# Altium footprint library con-leotronics.PCBLIB: 93 footprints (part 2 of 8)
Each footprint in its own frame and in the unit in brackets; x right, y up, seen from the top. Pads: shape width x height; smd on the part's side, far side on the other; paste and mask are expansions set on the pad; w line width, h text height; cw(c..) or ccw(c..) is an arc to the next point about the centre after c.
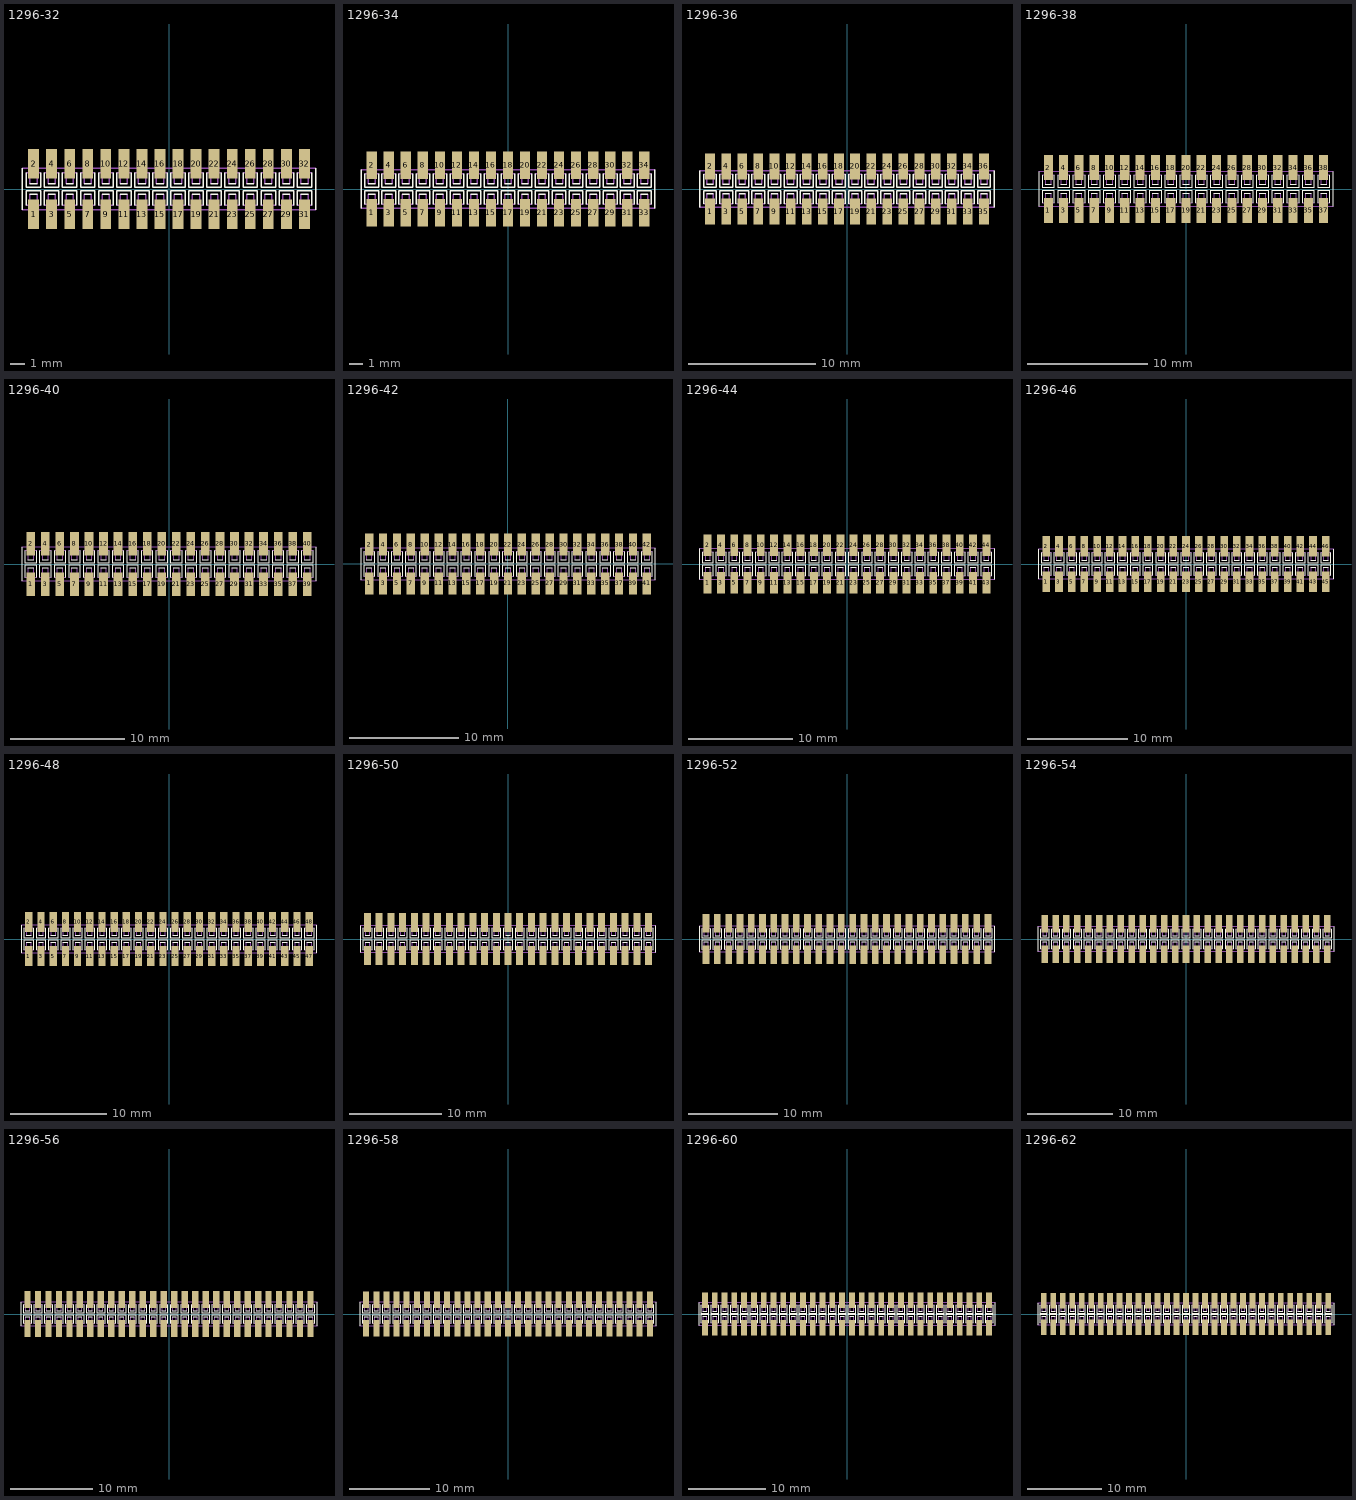
[diagram p1: the footprints below, top view; thin cyan lines are the x and y axes]

## 1296-32 [mm]
pads (32):
  rect 0.76x2.05 smd: 1(-9.525,-1.78) 2(-9.525,1.78) 3(-8.255,-1.78) 4(-8.255,1.78) 5(-6.985,-1.78) 6(-6.985,1.78) 7(-5.715,-1.78) 8(-5.715,1.78) 9(-4.445,-1.78) 10(-4.445,1.78) 11(-3.175,-1.78) 12(-3.175,1.78) 13(-1.905,-1.78) 14(-1.905,1.78) 15(-0.635,-1.78) 16(-0.635,1.78) 17(0.635,-1.78) 18(0.635,1.78) 19(1.905,-1.78) 20(1.905,1.78) 21(3.175,-1.78) 22(3.175,1.78) 23(4.445,-1.78) 24(4.445,1.78) 25(5.715,-1.78) 26(5.715,1.78) 27(6.985,-1.78) 28(6.985,1.78) 29(8.255,-1.78) 30(8.255,1.78) 31(9.525,-1.78) 32(9.525,1.78)
Top Overlay:
  lines w0.102: -10.32,-1.45 -10.32,1.45 ; -10.033,-1.143 -10.033,-0.127 -9.017,-0.127 -9.017,-1.143 ; -10.033,1.143 -10.033,0.127 -9.017,0.127 -9.017,1.143 ; -9.779,-0.381 -9.271,-0.381 ; -9.779,0.381 -9.271,0.381 ; -8.763,-1.143 -8.763,-0.127 -7.747,-0.127 -7.747,-1.143 ; -8.763,1.143 -8.763,0.127 -7.747,0.127 -7.747,1.143 ; -8.509,-0.381 -8.001,-0.381 ; -8.509,0.381 -8.001,0.381 ; -7.493,-1.143 -7.493,-0.127 -6.477,-0.127 -6.477,-1.143 ; -7.493,1.143 -7.493,0.127 -6.477,0.127 -6.477,1.143 ; -7.239,-0.381 -6.731,-0.381 ; -7.239,0.381 -6.731,0.381 ; -6.223,-1.143 -6.223,-0.127 -5.207,-0.127 -5.207,-1.143 ; -6.223,1.143 -6.223,0.127 -5.207,0.127 -5.207,1.143 ; -5.969,-0.381 -5.461,-0.381 ; -5.969,0.381 -5.461,0.381 ; -4.953,-1.143 -4.953,-0.127 -3.937,-0.127 -3.937,-1.143 ; -4.953,1.143 -4.953,0.127 -3.937,0.127 -3.937,1.143 ; -4.699,-0.381 -4.191,-0.381 ; -4.699,0.381 -4.191,0.381 ; -3.683,-1.143 -3.683,-0.127 -2.667,-0.127 -2.667,-1.143 ; -3.683,1.143 -3.683,0.127 -2.667,0.127 -2.667,1.143 ; -3.429,-0.381 -2.921,-0.381 ; -3.429,0.381 -2.921,0.381 ; -2.413,-1.143 -2.413,-0.127 -1.397,-0.127 -1.397,-1.143 ; -2.413,1.143 -2.413,0.127 -1.397,0.127 -1.397,1.143 ; -2.159,-0.381 -1.651,-0.381 ; -2.159,0.381 -1.651,0.381 ; -1.143,-1.143 -1.143,-0.127 -0.127,-0.127 -0.127,-1.143 ; -1.143,1.143 -1.143,0.127 -0.127,0.127 -0.127,1.143 ; -0.889,-0.381 -0.381,-0.381 ; -0.889,0.381 -0.381,0.381 ; 0.127,-1.143 0.127,-0.127 1.143,-0.127 1.143,-1.143 ; 0.127,1.143 0.127,0.127 1.143,0.127 1.143,1.143 ; 0.381,-0.381 0.889,-0.381 ; 0.381,0.381 0.889,0.381 ; 1.397,-1.143 1.397,-0.127 2.413,-0.127 2.413,-1.143 ; 1.397,1.143 1.397,0.127 2.413,0.127 2.413,1.143 ; 1.651,-0.381 2.159,-0.381 ; 1.651,0.381 2.159,0.381 ; 2.667,-1.143 2.667,-0.127 3.683,-0.127 3.683,-1.143 ; 2.667,1.143 2.667,0.127 3.683,0.127 3.683,1.143 ; 2.921,-0.381 3.429,-0.381 ; 2.921,0.381 3.429,0.381 ; 3.937,-1.143 3.937,-0.127 4.953,-0.127 4.953,-1.143 ; 3.937,1.143 3.937,0.127 4.953,0.127 4.953,1.143 ; 4.191,-0.381 4.699,-0.381 ; 4.191,0.381 4.699,0.381 ; 5.207,-1.143 5.207,-0.127 6.223,-0.127 6.223,-1.143 ; 5.207,1.143 5.207,0.127 6.223,0.127 6.223,1.143 ; 5.461,-0.381 5.969,-0.381 ; 5.461,0.381 5.969,0.381 ; 6.477,-1.143 6.477,-0.127 7.493,-0.127 7.493,-1.143 ; 6.477,1.143 6.477,0.127 7.493,0.127 7.493,1.143 ; 6.731,-0.381 7.239,-0.381 ; 6.731,0.381 7.239,0.381 ; 7.747,-1.143 7.747,-0.127 8.763,-0.127 8.763,-1.143 ; 7.747,1.143 7.747,0.127 8.763,0.127 8.763,1.143 ; 8.001,-0.381 8.509,-0.381 ; 8.001,0.381 8.509,0.381 ; 9.017,-1.143 9.017,-0.127 10.033,-0.127 10.033,-1.143 ; 9.017,1.143 9.017,0.127 10.033,0.127 10.033,1.143 ; 9.271,-0.381 9.779,-0.381 ; 9.271,0.381 9.779,0.381 ; 10.32,-1.45 10.32,1.45
Mechanical 16:
  lines w0.102: -10.32,-1.45 10.32,-1.45 ; -10.32,1.45 10.32,1.45 ; -10.033,-1.143 -9.017,-1.143 ; -10.033,1.143 -9.017,1.143 ; -9.779,-0.381 -9.779,-0.889 -9.271,-0.889 -9.271,-0.381 ; -9.779,0.381 -9.779,0.889 -9.271,0.889 -9.271,0.381 ; -8.763,-1.143 -7.747,-1.143 ; -8.763,1.143 -7.747,1.143 ; -8.509,-0.381 -8.509,-0.889 -8.001,-0.889 -8.001,-0.381 ; -8.509,0.381 -8.509,0.889 -8.001,0.889 -8.001,0.381 ; -7.493,-1.143 -6.477,-1.143 ; -7.493,1.143 -6.477,1.143 ; -7.239,-0.381 -7.239,-0.889 -6.731,-0.889 -6.731,-0.381 ; -7.239,0.381 -7.239,0.889 -6.731,0.889 -6.731,0.381 ; -6.223,-1.143 -5.207,-1.143 ; -6.223,1.143 -5.207,1.143 ; -5.969,-0.381 -5.969,-0.889 -5.461,-0.889 -5.461,-0.381 ; -5.969,0.381 -5.969,0.889 -5.461,0.889 -5.461,0.381 ; -4.953,-1.143 -3.937,-1.143 ; -4.953,1.143 -3.937,1.143 ; -4.699,-0.381 -4.699,-0.889 -4.191,-0.889 -4.191,-0.381 ; -4.699,0.381 -4.699,0.889 -4.191,0.889 -4.191,0.381 ; -3.683,-1.143 -2.667,-1.143 ; -3.683,1.143 -2.667,1.143 ; -3.429,-0.381 -3.429,-0.889 -2.921,-0.889 -2.921,-0.381 ; -3.429,0.381 -3.429,0.889 -2.921,0.889 -2.921,0.381 ; -2.413,-1.143 -1.397,-1.143 ; -2.413,1.143 -1.397,1.143 ; -2.159,-0.381 -2.159,-0.889 -1.651,-0.889 -1.651,-0.381 ; -2.159,0.381 -2.159,0.889 -1.651,0.889 -1.651,0.381 ; -1.143,-1.143 -0.127,-1.143 ; -1.143,1.143 -0.127,1.143 ; -0.889,-0.381 -0.889,-0.889 -0.381,-0.889 -0.381,-0.381 ; -0.889,0.381 -0.889,0.889 -0.381,0.889 -0.381,0.381 ; 0.127,-1.143 1.143,-1.143 ; 0.127,1.143 1.143,1.143 ; 0.381,-0.381 0.381,-0.889 0.889,-0.889 0.889,-0.381 ; 0.381,0.381 0.381,0.889 0.889,0.889 0.889,0.381 ; 1.397,-1.143 2.413,-1.143 ; 1.397,1.143 2.413,1.143 ; 1.651,-0.381 1.651,-0.889 2.159,-0.889 2.159,-0.381 ; 1.651,0.381 1.651,0.889 2.159,0.889 2.159,0.381 ; 2.667,-1.143 3.683,-1.143 ; 2.667,1.143 3.683,1.143 ; 2.921,-0.381 2.921,-0.889 3.429,-0.889 3.429,-0.381 ; 2.921,0.381 2.921,0.889 3.429,0.889 3.429,0.381 ; 3.937,-1.143 4.953,-1.143 ; 3.937,1.143 4.953,1.143 ; 4.191,-0.381 4.191,-0.889 4.699,-0.889 4.699,-0.381 ; 4.191,0.381 4.191,0.889 4.699,0.889 4.699,0.381 ; 5.207,-1.143 6.223,-1.143 ; 5.207,1.143 6.223,1.143 ; 5.461,-0.381 5.461,-0.889 5.969,-0.889 5.969,-0.381 ; 5.461,0.381 5.461,0.889 5.969,0.889 5.969,0.381 ; 6.477,-1.143 7.493,-1.143 ; 6.477,1.143 7.493,1.143 ; 6.731,-0.381 6.731,-0.889 7.239,-0.889 7.239,-0.381 ; 6.731,0.381 6.731,0.889 7.239,0.889 7.239,0.381 ; 7.747,-1.143 8.763,-1.143 ; 7.747,1.143 8.763,1.143 ; 8.001,-0.381 8.001,-0.889 8.509,-0.889 8.509,-0.381 ; 8.001,0.381 8.001,0.889 8.509,0.889 8.509,0.381 ; 9.017,-1.143 10.033,-1.143 ; 9.017,1.143 10.033,1.143 ; 9.271,-0.381 9.271,-0.889 9.779,-0.889 9.779,-0.381 ; 9.271,0.381 9.271,0.889 9.779,0.889 9.779,0.381

## 1296-34 [mm]
pads (34):
  rect 0.76x2.05 smd: 1(-10.16,-1.78) 2(-10.16,1.78) 3(-8.89,-1.78) 4(-8.89,1.78) 5(-7.62,-1.78) 6(-7.62,1.78) 7(-6.35,-1.78) 8(-6.35,1.78) 9(-5.08,-1.78) 10(-5.08,1.78) 11(-3.81,-1.78) 12(-3.81,1.78) 13(-2.54,-1.78) 14(-2.54,1.78) 15(-1.27,-1.78) 16(-1.27,1.78) 17(0,-1.78) 18(0,1.78) 19(1.27,-1.78) 20(1.27,1.78) 21(2.54,-1.78) 22(2.54,1.78) 23(3.81,-1.78) 24(3.81,1.78) 25(5.08,-1.78) 26(5.08,1.78) 27(6.35,-1.78) 28(6.35,1.78) 29(7.62,-1.78) 30(7.62,1.78) 31(8.89,-1.78) 32(8.89,1.78) 33(10.16,-1.78) 34(10.16,1.78)
Top Overlay:
  lines w0.102: -10.955,-1.45 -10.955,1.45 ; -10.668,-1.143 -10.668,-0.127 -9.652,-0.127 -9.652,-1.143 ; -10.668,1.143 -10.668,0.127 -9.652,0.127 -9.652,1.143 ; -10.414,-0.381 -9.906,-0.381 ; -10.414,0.381 -9.906,0.381 ; -9.398,-1.143 -9.398,-0.127 -8.382,-0.127 -8.382,-1.143 ; -9.398,1.143 -9.398,0.127 -8.382,0.127 -8.382,1.143 ; -9.144,-0.381 -8.636,-0.381 ; -9.144,0.381 -8.636,0.381 ; -8.128,-1.143 -8.128,-0.127 -7.112,-0.127 -7.112,-1.143 ; -8.128,1.143 -8.128,0.127 -7.112,0.127 -7.112,1.143 ; -7.874,-0.381 -7.366,-0.381 ; -7.874,0.381 -7.366,0.381 ; -6.858,-1.143 -6.858,-0.127 -5.842,-0.127 -5.842,-1.143 ; -6.858,1.143 -6.858,0.127 -5.842,0.127 -5.842,1.143 ; -6.604,-0.381 -6.096,-0.381 ; -6.604,0.381 -6.096,0.381 ; -5.588,-1.143 -5.588,-0.127 -4.572,-0.127 -4.572,-1.143 ; -5.588,1.143 -5.588,0.127 -4.572,0.127 -4.572,1.143 ; -5.334,-0.381 -4.826,-0.381 ; -5.334,0.381 -4.826,0.381 ; -4.318,-1.143 -4.318,-0.127 -3.302,-0.127 -3.302,-1.143 ; -4.318,1.143 -4.318,0.127 -3.302,0.127 -3.302,1.143 ; -4.064,-0.381 -3.556,-0.381 ; -4.064,0.381 -3.556,0.381 ; -3.048,-1.143 -3.048,-0.127 -2.032,-0.127 -2.032,-1.143 ; -3.048,1.143 -3.048,0.127 -2.032,0.127 -2.032,1.143 ; -2.794,-0.381 -2.286,-0.381 ; -2.794,0.381 -2.286,0.381 ; -1.778,-1.143 -1.778,-0.127 -0.762,-0.127 -0.762,-1.143 ; -1.778,1.143 -1.778,0.127 -0.762,0.127 -0.762,1.143 ; -1.524,-0.381 -1.016,-0.381 ; -1.524,0.381 -1.016,0.381 ; -0.508,-1.143 -0.508,-0.127 0.508,-0.127 0.508,-1.143 ; -0.508,1.143 -0.508,0.127 0.508,0.127 0.508,1.143 ; -0.254,-0.381 0.254,-0.381 ; -0.254,0.381 0.254,0.381 ; 0.762,-1.143 0.762,-0.127 1.778,-0.127 1.778,-1.143 ; 0.762,1.143 0.762,0.127 1.778,0.127 1.778,1.143 ; 1.016,-0.381 1.524,-0.381 ; 1.016,0.381 1.524,0.381 ; 2.032,-1.143 2.032,-0.127 3.048,-0.127 3.048,-1.143 ; 2.032,1.143 2.032,0.127 3.048,0.127 3.048,1.143 ; 2.286,-0.381 2.794,-0.381 ; 2.286,0.381 2.794,0.381 ; 3.302,-1.143 3.302,-0.127 4.318,-0.127 4.318,-1.143 ; 3.302,1.143 3.302,0.127 4.318,0.127 4.318,1.143 ; 3.556,-0.381 4.064,-0.381 ; 3.556,0.381 4.064,0.381 ; 4.572,-1.143 4.572,-0.127 5.588,-0.127 5.588,-1.143 ; 4.572,1.143 4.572,0.127 5.588,0.127 5.588,1.143 ; 4.826,-0.381 5.334,-0.381 ; 4.826,0.381 5.334,0.381 ; 5.842,-1.143 5.842,-0.127 6.858,-0.127 6.858,-1.143 ; 5.842,1.143 5.842,0.127 6.858,0.127 6.858,1.143 ; 6.096,-0.381 6.604,-0.381 ; 6.096,0.381 6.604,0.381 ; 7.112,-1.143 7.112,-0.127 8.128,-0.127 8.128,-1.143 ; 7.112,1.143 7.112,0.127 8.128,0.127 8.128,1.143 ; 7.366,-0.381 7.874,-0.381 ; 7.366,0.381 7.874,0.381 ; 8.382,-1.143 8.382,-0.127 9.398,-0.127 9.398,-1.143 ; 8.382,1.143 8.382,0.127 9.398,0.127 9.398,1.143 ; 8.636,-0.381 9.144,-0.381 ; 8.636,0.381 9.144,0.381 ; 9.652,-1.143 9.652,-0.127 10.668,-0.127 10.668,-1.143 ; 9.652,1.143 9.652,0.127 10.668,0.127 10.668,1.143 ; 9.906,-0.381 10.414,-0.381 ; 9.906,0.381 10.414,0.381 ; 10.955,-1.45 10.955,1.45
Mechanical 16:
  lines w0.102: -10.955,-1.45 10.955,-1.45 ; -10.955,1.45 10.955,1.45 ; -10.668,-1.143 -9.652,-1.143 ; -10.668,1.143 -9.652,1.143 ; -10.414,-0.381 -10.414,-0.889 -9.906,-0.889 -9.906,-0.381 ; -10.414,0.381 -10.414,0.889 -9.906,0.889 -9.906,0.381 ; -9.398,-1.143 -8.382,-1.143 ; -9.398,1.143 -8.382,1.143 ; -9.144,-0.381 -9.144,-0.889 -8.636,-0.889 -8.636,-0.381 ; -9.144,0.381 -9.144,0.889 -8.636,0.889 -8.636,0.381 ; -8.128,-1.143 -7.112,-1.143 ; -8.128,1.143 -7.112,1.143 ; -7.874,-0.381 -7.874,-0.889 -7.366,-0.889 -7.366,-0.381 ; -7.874,0.381 -7.874,0.889 -7.366,0.889 -7.366,0.381 ; -6.858,-1.143 -5.842,-1.143 ; -6.858,1.143 -5.842,1.143 ; -6.604,-0.381 -6.604,-0.889 -6.096,-0.889 -6.096,-0.381 ; -6.604,0.381 -6.604,0.889 -6.096,0.889 -6.096,0.381 ; -5.588,-1.143 -4.572,-1.143 ; -5.588,1.143 -4.572,1.143 ; -5.334,-0.381 -5.334,-0.889 -4.826,-0.889 -4.826,-0.381 ; -5.334,0.381 -5.334,0.889 -4.826,0.889 -4.826,0.381 ; -4.318,-1.143 -3.302,-1.143 ; -4.318,1.143 -3.302,1.143 ; -4.064,-0.381 -4.064,-0.889 -3.556,-0.889 -3.556,-0.381 ; -4.064,0.381 -4.064,0.889 -3.556,0.889 -3.556,0.381 ; -3.048,-1.143 -2.032,-1.143 ; -3.048,1.143 -2.032,1.143 ; -2.794,-0.381 -2.794,-0.889 -2.286,-0.889 -2.286,-0.381 ; -2.794,0.381 -2.794,0.889 -2.286,0.889 -2.286,0.381 ; -1.778,-1.143 -0.762,-1.143 ; -1.778,1.143 -0.762,1.143 ; -1.524,-0.381 -1.524,-0.889 -1.016,-0.889 -1.016,-0.381 ; -1.524,0.381 -1.524,0.889 -1.016,0.889 -1.016,0.381 ; -0.508,-1.143 0.508,-1.143 ; -0.508,1.143 0.508,1.143 ; -0.254,-0.381 -0.254,-0.889 0.254,-0.889 0.254,-0.381 ; -0.254,0.381 -0.254,0.889 0.254,0.889 0.254,0.381 ; 0.762,-1.143 1.778,-1.143 ; 0.762,1.143 1.778,1.143 ; 1.016,-0.381 1.016,-0.889 1.524,-0.889 1.524,-0.381 ; 1.016,0.381 1.016,0.889 1.524,0.889 1.524,0.381 ; 2.032,-1.143 3.048,-1.143 ; 2.032,1.143 3.048,1.143 ; 2.286,-0.381 2.286,-0.889 2.794,-0.889 2.794,-0.381 ; 2.286,0.381 2.286,0.889 2.794,0.889 2.794,0.381 ; 3.302,-1.143 4.318,-1.143 ; 3.302,1.143 4.318,1.143 ; 3.556,-0.381 3.556,-0.889 4.064,-0.889 4.064,-0.381 ; 3.556,0.381 3.556,0.889 4.064,0.889 4.064,0.381 ; 4.572,-1.143 5.588,-1.143 ; 4.572,1.143 5.588,1.143 ; 4.826,-0.381 4.826,-0.889 5.334,-0.889 5.334,-0.381 ; 4.826,0.381 4.826,0.889 5.334,0.889 5.334,0.381 ; 5.842,-1.143 6.858,-1.143 ; 5.842,1.143 6.858,1.143 ; 6.096,-0.381 6.096,-0.889 6.604,-0.889 6.604,-0.381 ; 6.096,0.381 6.096,0.889 6.604,0.889 6.604,0.381 ; 7.112,-1.143 8.128,-1.143 ; 7.112,1.143 8.128,1.143 ; 7.366,-0.381 7.366,-0.889 7.874,-0.889 7.874,-0.381 ; 7.366,0.381 7.366,0.889 7.874,0.889 7.874,0.381 ; 8.382,-1.143 9.398,-1.143 ; 8.382,1.143 9.398,1.143 ; 8.636,-0.381 8.636,-0.889 9.144,-0.889 9.144,-0.381 ; 8.636,0.381 8.636,0.889 9.144,0.889 9.144,0.381 ; 9.652,-1.143 10.668,-1.143 ; 9.652,1.143 10.668,1.143 ; 9.906,-0.381 9.906,-0.889 10.414,-0.889 10.414,-0.381 ; 9.906,0.381 9.906,0.889 10.414,0.889 10.414,0.381

## 1296-36 [mm]
pads (36):
  rect 0.76x2.05 smd: 1(-10.795,-1.78) 2(-10.795,1.78) 3(-9.525,-1.78) 4(-9.525,1.78) 5(-8.255,-1.78) 6(-8.255,1.78) 7(-6.985,-1.78) 8(-6.985,1.78) 9(-5.715,-1.78) 10(-5.715,1.78) 11(-4.445,-1.78) 12(-4.445,1.78) 13(-3.175,-1.78) 14(-3.175,1.78) 15(-1.905,-1.78) 16(-1.905,1.78) 17(-0.635,-1.78) 18(-0.635,1.78) 19(0.635,-1.78) 20(0.635,1.78) 21(1.905,-1.78) 22(1.905,1.78) 23(3.175,-1.78) 24(3.175,1.78) 25(4.445,-1.78) 26(4.445,1.78) 27(5.715,-1.78) 28(5.715,1.78) 29(6.985,-1.78) 30(6.985,1.78) 31(8.255,-1.78) 32(8.255,1.78) 33(9.525,-1.78) 34(9.525,1.78) 35(10.795,-1.78) 36(10.795,1.78)
Top Overlay:
  lines w0.102: -11.59,-1.45 -11.59,1.45 ; -11.303,-1.143 -11.303,-0.127 -10.287,-0.127 -10.287,-1.143 ; -11.303,1.143 -11.303,0.127 -10.287,0.127 -10.287,1.143 ; -11.049,-0.381 -10.541,-0.381 ; -11.049,0.381 -10.541,0.381 ; -10.033,-1.143 -10.033,-0.127 -9.017,-0.127 -9.017,-1.143 ; -10.033,1.143 -10.033,0.127 -9.017,0.127 -9.017,1.143 ; -9.779,-0.381 -9.271,-0.381 ; -9.779,0.381 -9.271,0.381 ; -8.763,-1.143 -8.763,-0.127 -7.747,-0.127 -7.747,-1.143 ; -8.763,1.143 -8.763,0.127 -7.747,0.127 -7.747,1.143 ; -8.509,-0.381 -8.001,-0.381 ; -8.509,0.381 -8.001,0.381 ; -7.493,-1.143 -7.493,-0.127 -6.477,-0.127 -6.477,-1.143 ; -7.493,1.143 -7.493,0.127 -6.477,0.127 -6.477,1.143 ; -7.239,-0.381 -6.731,-0.381 ; -7.239,0.381 -6.731,0.381 ; -6.223,-1.143 -6.223,-0.127 -5.207,-0.127 -5.207,-1.143 ; -6.223,1.143 -6.223,0.127 -5.207,0.127 -5.207,1.143 ; -5.969,-0.381 -5.461,-0.381 ; -5.969,0.381 -5.461,0.381 ; -4.953,-1.143 -4.953,-0.127 -3.937,-0.127 -3.937,-1.143 ; -4.953,1.143 -4.953,0.127 -3.937,0.127 -3.937,1.143 ; -4.699,-0.381 -4.191,-0.381 ; -4.699,0.381 -4.191,0.381 ; -3.683,-1.143 -3.683,-0.127 -2.667,-0.127 -2.667,-1.143 ; -3.683,1.143 -3.683,0.127 -2.667,0.127 -2.667,1.143 ; -3.429,-0.381 -2.921,-0.381 ; -3.429,0.381 -2.921,0.381 ; -2.413,-1.143 -2.413,-0.127 -1.397,-0.127 -1.397,-1.143 ; -2.413,1.143 -2.413,0.127 -1.397,0.127 -1.397,1.143 ; -2.159,-0.381 -1.651,-0.381 ; -2.159,0.381 -1.651,0.381 ; -1.143,-1.143 -1.143,-0.127 -0.127,-0.127 -0.127,-1.143 ; -1.143,1.143 -1.143,0.127 -0.127,0.127 -0.127,1.143 ; -0.889,-0.381 -0.381,-0.381 ; -0.889,0.381 -0.381,0.381 ; 0.127,-1.143 0.127,-0.127 1.143,-0.127 1.143,-1.143 ; 0.127,1.143 0.127,0.127 1.143,0.127 1.143,1.143 ; 0.381,-0.381 0.889,-0.381 ; 0.381,0.381 0.889,0.381 ; 1.397,-1.143 1.397,-0.127 2.413,-0.127 2.413,-1.143 ; 1.397,1.143 1.397,0.127 2.413,0.127 2.413,1.143 ; 1.651,-0.381 2.159,-0.381 ; 1.651,0.381 2.159,0.381 ; 2.667,-1.143 2.667,-0.127 3.683,-0.127 3.683,-1.143 ; 2.667,1.143 2.667,0.127 3.683,0.127 3.683,1.143 ; 2.921,-0.381 3.429,-0.381 ; 2.921,0.381 3.429,0.381 ; 3.937,-1.143 3.937,-0.127 4.953,-0.127 4.953,-1.143 ; 3.937,1.143 3.937,0.127 4.953,0.127 4.953,1.143 ; 4.191,-0.381 4.699,-0.381 ; 4.191,0.381 4.699,0.381 ; 5.207,-1.143 5.207,-0.127 6.223,-0.127 6.223,-1.143 ; 5.207,1.143 5.207,0.127 6.223,0.127 6.223,1.143 ; 5.461,-0.381 5.969,-0.381 ; 5.461,0.381 5.969,0.381 ; 6.477,-1.143 6.477,-0.127 7.493,-0.127 7.493,-1.143 ; 6.477,1.143 6.477,0.127 7.493,0.127 7.493,1.143 ; 6.731,-0.381 7.239,-0.381 ; 6.731,0.381 7.239,0.381 ; 7.747,-1.143 7.747,-0.127 8.763,-0.127 8.763,-1.143 ; 7.747,1.143 7.747,0.127 8.763,0.127 8.763,1.143 ; 8.001,-0.381 8.509,-0.381 ; 8.001,0.381 8.509,0.381 ; 9.017,-1.143 9.017,-0.127 10.033,-0.127 10.033,-1.143 ; 9.017,1.143 9.017,0.127 10.033,0.127 10.033,1.143 ; 9.271,-0.381 9.779,-0.381 ; 9.271,0.381 9.779,0.381 ; 10.287,-1.143 10.287,-0.127 11.303,-0.127 11.303,-1.143 ; 10.287,1.143 10.287,0.127 11.303,0.127 11.303,1.143 ; 10.541,-0.381 11.049,-0.381 ; 10.541,0.381 11.049,0.381 ; 11.59,-1.45 11.59,1.45
Mechanical 16:
  lines w0.102: -11.59,-1.45 11.59,-1.45 ; -11.59,1.45 11.59,1.45 ; -11.303,-1.143 -10.287,-1.143 ; -11.303,1.143 -10.287,1.143 ; -11.049,-0.381 -11.049,-0.889 -10.541,-0.889 -10.541,-0.381 ; -11.049,0.381 -11.049,0.889 -10.541,0.889 -10.541,0.381 ; -10.033,-1.143 -9.017,-1.143 ; -10.033,1.143 -9.017,1.143 ; -9.779,-0.381 -9.779,-0.889 -9.271,-0.889 -9.271,-0.381 ; -9.779,0.381 -9.779,0.889 -9.271,0.889 -9.271,0.381 ; -8.763,-1.143 -7.747,-1.143 ; -8.763,1.143 -7.747,1.143 ; -8.509,-0.381 -8.509,-0.889 -8.001,-0.889 -8.001,-0.381 ; -8.509,0.381 -8.509,0.889 -8.001,0.889 -8.001,0.381 ; -7.493,-1.143 -6.477,-1.143 ; -7.493,1.143 -6.477,1.143 ; -7.239,-0.381 -7.239,-0.889 -6.731,-0.889 -6.731,-0.381 ; -7.239,0.381 -7.239,0.889 -6.731,0.889 -6.731,0.381 ; -6.223,-1.143 -5.207,-1.143 ; -6.223,1.143 -5.207,1.143 ; -5.969,-0.381 -5.969,-0.889 -5.461,-0.889 -5.461,-0.381 ; -5.969,0.381 -5.969,0.889 -5.461,0.889 -5.461,0.381 ; -4.953,-1.143 -3.937,-1.143 ; -4.953,1.143 -3.937,1.143 ; -4.699,-0.381 -4.699,-0.889 -4.191,-0.889 -4.191,-0.381 ; -4.699,0.381 -4.699,0.889 -4.191,0.889 -4.191,0.381 ; -3.683,-1.143 -2.667,-1.143 ; -3.683,1.143 -2.667,1.143 ; -3.429,-0.381 -3.429,-0.889 -2.921,-0.889 -2.921,-0.381 ; -3.429,0.381 -3.429,0.889 -2.921,0.889 -2.921,0.381 ; -2.413,-1.143 -1.397,-1.143 ; -2.413,1.143 -1.397,1.143 ; -2.159,-0.381 -2.159,-0.889 -1.651,-0.889 -1.651,-0.381 ; -2.159,0.381 -2.159,0.889 -1.651,0.889 -1.651,0.381 ; -1.143,-1.143 -0.127,-1.143 ; -1.143,1.143 -0.127,1.143 ; -0.889,-0.381 -0.889,-0.889 -0.381,-0.889 -0.381,-0.381 ; -0.889,0.381 -0.889,0.889 -0.381,0.889 -0.381,0.381 ; 0.127,-1.143 1.143,-1.143 ; 0.127,1.143 1.143,1.143 ; 0.381,-0.381 0.381,-0.889 0.889,-0.889 0.889,-0.381 ; 0.381,0.381 0.381,0.889 0.889,0.889 0.889,0.381 ; 1.397,-1.143 2.413,-1.143 ; 1.397,1.143 2.413,1.143 ; 1.651,-0.381 1.651,-0.889 2.159,-0.889 2.159,-0.381 ; 1.651,0.381 1.651,0.889 2.159,0.889 2.159,0.381 ; 2.667,-1.143 3.683,-1.143 ; 2.667,1.143 3.683,1.143 ; 2.921,-0.381 2.921,-0.889 3.429,-0.889 3.429,-0.381 ; 2.921,0.381 2.921,0.889 3.429,0.889 3.429,0.381 ; 3.937,-1.143 4.953,-1.143 ; 3.937,1.143 4.953,1.143 ; 4.191,-0.381 4.191,-0.889 4.699,-0.889 4.699,-0.381 ; 4.191,0.381 4.191,0.889 4.699,0.889 4.699,0.381 ; 5.207,-1.143 6.223,-1.143 ; 5.207,1.143 6.223,1.143 ; 5.461,-0.381 5.461,-0.889 5.969,-0.889 5.969,-0.381 ; 5.461,0.381 5.461,0.889 5.969,0.889 5.969,0.381 ; 6.477,-1.143 7.493,-1.143 ; 6.477,1.143 7.493,1.143 ; 6.731,-0.381 6.731,-0.889 7.239,-0.889 7.239,-0.381 ; 6.731,0.381 6.731,0.889 7.239,0.889 7.239,0.381 ; 7.747,-1.143 8.763,-1.143 ; 7.747,1.143 8.763,1.143 ; 8.001,-0.381 8.001,-0.889 8.509,-0.889 8.509,-0.381 ; 8.001,0.381 8.001,0.889 8.509,0.889 8.509,0.381 ; 9.017,-1.143 10.033,-1.143 ; 9.017,1.143 10.033,1.143 ; 9.271,-0.381 9.271,-0.889 9.779,-0.889 9.779,-0.381 ; 9.271,0.381 9.271,0.889 9.779,0.889 9.779,0.381 ; 10.287,-1.143 11.303,-1.143 ; 10.287,1.143 11.303,1.143 ; 10.541,-0.381 10.541,-0.889 11.049,-0.889 11.049,-0.381 ; 10.541,0.381 10.541,0.889 11.049,0.889 11.049,0.381

## 1296-38 [mm]
pads (38):
  rect 0.76x2.05 smd: 1(-11.43,-1.78) 2(-11.43,1.78) 3(-10.16,-1.78) 4(-10.16,1.78) 5(-8.89,-1.78) 6(-8.89,1.78) 7(-7.62,-1.78) 8(-7.62,1.78) 9(-6.35,-1.78) 10(-6.35,1.78) 11(-5.08,-1.78) 12(-5.08,1.78) 13(-3.81,-1.78) 14(-3.81,1.78) 15(-2.54,-1.78) 16(-2.54,1.78) 17(-1.27,-1.78) 18(-1.27,1.78) 19(0,-1.78) 20(0,1.78) 21(1.27,-1.78) 22(1.27,1.78) 23(2.54,-1.78) 24(2.54,1.78) 25(3.81,-1.78) 26(3.81,1.78) 27(5.08,-1.78) 28(5.08,1.78) 29(6.35,-1.78) 30(6.35,1.78) 31(7.62,-1.78) 32(7.62,1.78) 33(8.89,-1.78) 34(8.89,1.78) 35(10.16,-1.78) 36(10.16,1.78) 37(11.43,-1.78) 38(11.43,1.78)
Top Overlay:
  drawing of 154 lines, arcs and shapes, not listed
Mechanical 16:
  drawing of 154 lines, arcs and shapes, not listed

## 1296-40 [mm]
pads (40):
  rect 0.76x2.05 smd: 1(-12.065,-1.78) 2(-12.065,1.78) 3(-10.795,-1.78) 4(-10.795,1.78) 5(-9.525,-1.78) 6(-9.525,1.78) 7(-8.255,-1.78) 8(-8.255,1.78) 9(-6.985,-1.78) 10(-6.985,1.78) 11(-5.715,-1.78) 12(-5.715,1.78) 13(-4.445,-1.78) 14(-4.445,1.78) 15(-3.175,-1.78) 16(-3.175,1.78) 17(-1.905,-1.78) 18(-1.905,1.78) 19(-0.635,-1.78) 20(-0.635,1.78) 21(0.635,-1.78) 22(0.635,1.78) 23(1.905,-1.78) 24(1.905,1.78) 25(3.175,-1.78) 26(3.175,1.78) 27(4.445,-1.78) 28(4.445,1.78) 29(5.715,-1.78) 30(5.715,1.78) 31(6.985,-1.78) 32(6.985,1.78) 33(8.255,-1.78) 34(8.255,1.78) 35(9.525,-1.78) 36(9.525,1.78) 37(10.795,-1.78) 38(10.795,1.78) 39(12.065,-1.78) 40(12.065,1.78)
Top Overlay:
  drawing of 162 lines, arcs and shapes, not listed
Mechanical 16:
  drawing of 162 lines, arcs and shapes, not listed

## 1296-42 [mm]
pads (42):
  rect 0.76x2.05 smd: 1(-12.7,-1.78) 2(-12.7,1.78) 3(-11.43,-1.78) 4(-11.43,1.78) 5(-10.16,-1.78) 6(-10.16,1.78) 7(-8.89,-1.78) 8(-8.89,1.78) 9(-7.62,-1.78) 10(-7.62,1.78) 11(-6.35,-1.78) 12(-6.35,1.78) 13(-5.08,-1.78) 14(-5.08,1.78) 15(-3.81,-1.78) 16(-3.81,1.78) 17(-2.54,-1.78) 18(-2.54,1.78) 19(-1.27,-1.78) 20(-1.27,1.78) 21(0,-1.78) 22(0,1.78) 23(1.27,-1.78) 24(1.27,1.78) 25(2.54,-1.78) 26(2.54,1.78) 27(3.81,-1.78) 28(3.81,1.78) 29(5.08,-1.78) 30(5.08,1.78) 31(6.35,-1.78) 32(6.35,1.78) 33(7.62,-1.78) 34(7.62,1.78) 35(8.89,-1.78) 36(8.89,1.78) 37(10.16,-1.78) 38(10.16,1.78) 39(11.43,-1.78) 40(11.43,1.78) 41(12.7,-1.78) 42(12.7,1.78)
Top Overlay:
  drawing of 170 lines, arcs and shapes, not listed
Mechanical 16:
  drawing of 170 lines, arcs and shapes, not listed

## 1296-44 [mm]
pads (44):
  rect 0.76x2.05 smd: 1(-13.335,-1.78) 2(-13.335,1.78) 3(-12.065,-1.78) 4(-12.065,1.78) 5(-10.795,-1.78) 6(-10.795,1.78) 7(-9.525,-1.78) 8(-9.525,1.78) 9(-8.255,-1.78) 10(-8.255,1.78) 11(-6.985,-1.78) 12(-6.985,1.78) 13(-5.715,-1.78) 14(-5.715,1.78) 15(-4.445,-1.78) 16(-4.445,1.78) 17(-3.175,-1.78) 18(-3.175,1.78) 19(-1.905,-1.78) 20(-1.905,1.78) 21(-0.635,-1.78) 22(-0.635,1.78) 23(0.635,-1.78) 24(0.635,1.78) 25(1.905,-1.78) 26(1.905,1.78) 27(3.175,-1.78) 28(3.175,1.78) 29(4.445,-1.78) 30(4.445,1.78) 31(5.715,-1.78) 32(5.715,1.78) 33(6.985,-1.78) 34(6.985,1.78) 35(8.255,-1.78) 36(8.255,1.78) 37(9.525,-1.78) 38(9.525,1.78) 39(10.795,-1.78) 40(10.795,1.78) 41(12.065,-1.78) 42(12.065,1.78) 43(13.335,-1.78) 44(13.335,1.78)
Top Overlay:
  drawing of 178 lines, arcs and shapes, not listed
Mechanical 16:
  drawing of 178 lines, arcs and shapes, not listed

## 1296-46 [mm]
pads (46):
  rect 0.76x2.05 smd: 1(-13.97,-1.78) 2(-13.97,1.78) 3(-12.7,-1.78) 4(-12.7,1.78) 5(-11.43,-1.78) 6(-11.43,1.78) 7(-10.16,-1.78) 8(-10.16,1.78) 9(-8.89,-1.78) 10(-8.89,1.78) 11(-7.62,-1.78) 12(-7.62,1.78) 13(-6.35,-1.78) 14(-6.35,1.78) 15(-5.08,-1.78) 16(-5.08,1.78) 17(-3.81,-1.78) 18(-3.81,1.78) 19(-2.54,-1.78) 20(-2.54,1.78) 21(-1.27,-1.78) 22(-1.27,1.78) 23(0,-1.78) 24(0,1.78) 25(1.27,-1.78) 26(1.27,1.78) 27(2.54,-1.78) 28(2.54,1.78) 29(3.81,-1.78) 30(3.81,1.78) 31(5.08,-1.78) 32(5.08,1.78) 33(6.35,-1.78) 34(6.35,1.78) 35(7.62,-1.78) 36(7.62,1.78) 37(8.89,-1.78) 38(8.89,1.78) 39(10.16,-1.78) 40(10.16,1.78) 41(11.43,-1.78) 42(11.43,1.78) 43(12.7,-1.78) 44(12.7,1.78) 45(13.97,-1.78) 46(13.97,1.78)
Top Overlay:
  drawing of 186 lines, arcs and shapes, not listed
Mechanical 16:
  drawing of 186 lines, arcs and shapes, not listed

## 1296-48 [mm]
pads (48):
  rect 0.76x2.05 smd: 1(-14.605,-1.78) 2(-14.605,1.78) 3(-13.335,-1.78) 4(-13.335,1.78) 5(-12.065,-1.78) 6(-12.065,1.78) 7(-10.795,-1.78) 8(-10.795,1.78) 9(-9.525,-1.78) 10(-9.525,1.78) 11(-8.255,-1.78) 12(-8.255,1.78) 13(-6.985,-1.78) 14(-6.985,1.78) 15(-5.715,-1.78) 16(-5.715,1.78) 17(-4.445,-1.78) 18(-4.445,1.78) 19(-3.175,-1.78) 20(-3.175,1.78) 21(-1.905,-1.78) 22(-1.905,1.78) 23(-0.635,-1.78) 24(-0.635,1.78) 25(0.635,-1.78) 26(0.635,1.78) 27(1.905,-1.78) 28(1.905,1.78) 29(3.175,-1.78) 30(3.175,1.78) 31(4.445,-1.78) 32(4.445,1.78) 33(5.715,-1.78) 34(5.715,1.78) 35(6.985,-1.78) 36(6.985,1.78) 37(8.255,-1.78) 38(8.255,1.78) 39(9.525,-1.78) 40(9.525,1.78) 41(10.795,-1.78) 42(10.795,1.78) 43(12.065,-1.78) 44(12.065,1.78) 45(13.335,-1.78) 46(13.335,1.78) 47(14.605,-1.78) 48(14.605,1.78)
Top Overlay:
  drawing of 194 lines, arcs and shapes, not listed
Mechanical 16:
  drawing of 194 lines, arcs and shapes, not listed

## 1296-50 [mm]
pads (50):
  rect 0.76x2.05 smd: 1(-15.24,-1.78) 2(-15.24,1.78) 3(-13.97,-1.78) 4(-13.97,1.78) 5(-12.7,-1.78) 6(-12.7,1.78) 7(-11.43,-1.78) 8(-11.43,1.78) 9(-10.16,-1.78) 10(-10.16,1.78) 11(-8.89,-1.78) 12(-8.89,1.78) 13(-7.62,-1.78) 14(-7.62,1.78) 15(-6.35,-1.78) 16(-6.35,1.78) 17(-5.08,-1.78) 18(-5.08,1.78) 19(-3.81,-1.78) 20(-3.81,1.78) 21(-2.54,-1.78) 22(-2.54,1.78) 23(-1.27,-1.78) 24(-1.27,1.78) 25(0,-1.78) 26(0,1.78) 27(1.27,-1.78) 28(1.27,1.78) 29(2.54,-1.78) 30(2.54,1.78) 31(3.81,-1.78) 32(3.81,1.78) 33(5.08,-1.78) 34(5.08,1.78) 35(6.35,-1.78) 36(6.35,1.78) 37(7.62,-1.78) 38(7.62,1.78) 39(8.89,-1.78) 40(8.89,1.78) 41(10.16,-1.78) 42(10.16,1.78) 43(11.43,-1.78) 44(11.43,1.78) 45(12.7,-1.78) 46(12.7,1.78) 47(13.97,-1.78) 48(13.97,1.78) 49(15.24,-1.78) 50(15.24,1.78)
Top Overlay:
  drawing of 202 lines, arcs and shapes, not listed
Mechanical 16:
  drawing of 202 lines, arcs and shapes, not listed

## 1296-52 [mm]
pads (52):
  rect 0.76x2.05 smd: 1(-15.875,-1.78) 2(-15.875,1.78) 3(-14.605,-1.78) 4(-14.605,1.78) 5(-13.335,-1.78) 6(-13.335,1.78) 7(-12.065,-1.78) 8(-12.065,1.78) 9(-10.795,-1.78) 10(-10.795,1.78) 11(-9.525,-1.78) 12(-9.525,1.78) 13(-8.255,-1.78) 14(-8.255,1.78) 15(-6.985,-1.78) 16(-6.985,1.78) 17(-5.715,-1.78) 18(-5.715,1.78) 19(-4.445,-1.78) 20(-4.445,1.78) 21(-3.175,-1.78) 22(-3.175,1.78) 23(-1.905,-1.78) 24(-1.905,1.78) 25(-0.635,-1.78) 26(-0.635,1.78) 27(0.635,-1.78) 28(0.635,1.78) 29(1.905,-1.78) 30(1.905,1.78) 31(3.175,-1.78) 32(3.175,1.78) 33(4.445,-1.78) 34(4.445,1.78) 35(5.715,-1.78) 36(5.715,1.78) 37(6.985,-1.78) 38(6.985,1.78) 39(8.255,-1.78) 40(8.255,1.78) 41(9.525,-1.78) 42(9.525,1.78) 43(10.795,-1.78) 44(10.795,1.78) 45(12.065,-1.78) 46(12.065,1.78) 47(13.335,-1.78) 48(13.335,1.78) 49(14.605,-1.78) 50(14.605,1.78) 51(15.875,-1.78) 52(15.875,1.78)
Top Overlay:
  drawing of 210 lines, arcs and shapes, not listed
Mechanical 16:
  drawing of 210 lines, arcs and shapes, not listed

## 1296-54 [mm]
pads (54):
  rect 0.76x2.05 smd: 1(-16.51,-1.78) 2(-16.51,1.78) 3(-15.24,-1.78) 4(-15.24,1.78) 5(-13.97,-1.78) 6(-13.97,1.78) 7(-12.7,-1.78) 8(-12.7,1.78) 9(-11.43,-1.78) 10(-11.43,1.78) 11(-10.16,-1.78) 12(-10.16,1.78) 13(-8.89,-1.78) 14(-8.89,1.78) 15(-7.62,-1.78) 16(-7.62,1.78) 17(-6.35,-1.78) 18(-6.35,1.78) 19(-5.08,-1.78) 20(-5.08,1.78) 21(-3.81,-1.78) 22(-3.81,1.78) 23(-2.54,-1.78) 24(-2.54,1.78) 25(-1.27,-1.78) 26(-1.27,1.78) 27(0,-1.78) 28(0,1.78) 29(1.27,-1.78) 30(1.27,1.78) 31(2.54,-1.78) 32(2.54,1.78) 33(3.81,-1.78) 34(3.81,1.78) 35(5.08,-1.78) 36(5.08,1.78) 37(6.35,-1.78) 38(6.35,1.78) 39(7.62,-1.78) 40(7.62,1.78) 41(8.89,-1.78) 42(8.89,1.78) 43(10.16,-1.78) 44(10.16,1.78) 45(11.43,-1.78) 46(11.43,1.78) 47(12.7,-1.78) 48(12.7,1.78) 49(13.97,-1.78) 50(13.97,1.78) 51(15.24,-1.78) 52(15.24,1.78) 53(16.51,-1.78) 54(16.51,1.78)
Top Overlay:
  drawing of 218 lines, arcs and shapes, not listed
Mechanical 16:
  drawing of 218 lines, arcs and shapes, not listed

## 1296-56 [mm]
pads (56):
  rect 0.76x2.05 smd: 1(-17.145,-1.78) 2(-17.145,1.78) 3(-15.875,-1.78) 4(-15.875,1.78) 5(-14.605,-1.78) 6(-14.605,1.78) 7(-13.335,-1.78) 8(-13.335,1.78) 9(-12.065,-1.78) 10(-12.065,1.78) 11(-10.795,-1.78) 12(-10.795,1.78) 13(-9.525,-1.78) 14(-9.525,1.78) 15(-8.255,-1.78) 16(-8.255,1.78) 17(-6.985,-1.78) 18(-6.985,1.78) 19(-5.715,-1.78) 20(-5.715,1.78) 21(-4.445,-1.78) 22(-4.445,1.78) 23(-3.175,-1.78) 24(-3.175,1.78) 25(-1.905,-1.78) 26(-1.905,1.78) 27(-0.635,-1.78) 28(-0.635,1.78) 29(0.635,-1.78) 30(0.635,1.78) 31(1.905,-1.78) 32(1.905,1.78) 33(3.175,-1.78) 34(3.175,1.78) 35(4.445,-1.78) 36(4.445,1.78) 37(5.715,-1.78) 38(5.715,1.78) 39(6.985,-1.78) 40(6.985,1.78) 41(8.255,-1.78) 42(8.255,1.78) 43(9.525,-1.78) 44(9.525,1.78) 45(10.795,-1.78) 46(10.795,1.78) 47(12.065,-1.78) 48(12.065,1.78) 49(13.335,-1.78) 50(13.335,1.78) 51(14.605,-1.78) 52(14.605,1.78) 53(15.875,-1.78) 54(15.875,1.78) 55(17.145,-1.78) 56(17.145,1.78)
Top Overlay:
  drawing of 226 lines, arcs and shapes, not listed
Mechanical 16:
  drawing of 226 lines, arcs and shapes, not listed

## 1296-58 [mm]
pads (58):
  rect 0.76x2.05 smd: 1(-17.78,-1.78) 2(-17.78,1.78) 3(-16.51,-1.78) 4(-16.51,1.78) 5(-15.24,-1.78) 6(-15.24,1.78) 7(-13.97,-1.78) 8(-13.97,1.78) 9(-12.7,-1.78) 10(-12.7,1.78) 11(-11.43,-1.78) 12(-11.43,1.78) 13(-10.16,-1.78) 14(-10.16,1.78) 15(-8.89,-1.78) 16(-8.89,1.78) 17(-7.62,-1.78) 18(-7.62,1.78) 19(-6.35,-1.78) 20(-6.35,1.78) 21(-5.08,-1.78) 22(-5.08,1.78) 23(-3.81,-1.78) 24(-3.81,1.78) 25(-2.54,-1.78) 26(-2.54,1.78) 27(-1.27,-1.78) 28(-1.27,1.78) 29(0,-1.78) 30(0,1.78) 31(1.27,-1.78) 32(1.27,1.78) 33(2.54,-1.78) 34(2.54,1.78) 35(3.81,-1.78) 36(3.81,1.78) 37(5.08,-1.78) 38(5.08,1.78) 39(6.35,-1.78) 40(6.35,1.78) 41(7.62,-1.78) 42(7.62,1.78) 43(8.89,-1.78) 44(8.89,1.78) 45(10.16,-1.78) 46(10.16,1.78) 47(11.43,-1.78) 48(11.43,1.78) 49(12.7,-1.78) 50(12.7,1.78) 51(13.97,-1.78) 52(13.97,1.78) 53(15.24,-1.78) 54(15.24,1.78) 55(16.51,-1.78) 56(16.51,1.78) 57(17.78,-1.78) 58(17.78,1.78)
Top Overlay:
  drawing of 234 lines, arcs and shapes, not listed
Mechanical 16:
  drawing of 234 lines, arcs and shapes, not listed

## 1296-60 [mm]
pads (60):
  rect 0.76x2.05 smd: 1(-18.415,-1.78) 2(-18.415,1.78) 3(-17.145,-1.78) 4(-17.145,1.78) 5(-15.875,-1.78) 6(-15.875,1.78) 7(-14.605,-1.78) 8(-14.605,1.78) 9(-13.335,-1.78) 10(-13.335,1.78) 11(-12.065,-1.78) 12(-12.065,1.78) 13(-10.795,-1.78) 14(-10.795,1.78) 15(-9.525,-1.78) 16(-9.525,1.78) 17(-8.255,-1.78) 18(-8.255,1.78) 19(-6.985,-1.78) 20(-6.985,1.78) 21(-5.715,-1.78) 22(-5.715,1.78) 23(-4.445,-1.78) 24(-4.445,1.78) 25(-3.175,-1.78) 26(-3.175,1.78) 27(-1.905,-1.78) 28(-1.905,1.78) 29(-0.635,-1.78) 30(-0.635,1.78) 31(0.635,-1.78) 32(0.635,1.78) 33(1.905,-1.78) 34(1.905,1.78) 35(3.175,-1.78) 36(3.175,1.78) 37(4.445,-1.78) 38(4.445,1.78) 39(5.715,-1.78) 40(5.715,1.78) 41(6.985,-1.78) 42(6.985,1.78) 43(8.255,-1.78) 44(8.255,1.78) 45(9.525,-1.78) 46(9.525,1.78) 47(10.795,-1.78) 48(10.795,1.78) 49(12.065,-1.78) 50(12.065,1.78) 51(13.335,-1.78) 52(13.335,1.78) 53(14.605,-1.78) 54(14.605,1.78) 55(15.875,-1.78) 56(15.875,1.78) 57(17.145,-1.78) 58(17.145,1.78) 59(18.415,-1.78) 60(18.415,1.78)
Top Overlay:
  drawing of 242 lines, arcs and shapes, not listed
Mechanical 16:
  drawing of 242 lines, arcs and shapes, not listed

## 1296-62 [mm]
pads (62):
  rect 0.76x2.05 smd: 1(-19.05,-1.78) 2(-19.05,1.78) 3(-17.78,-1.78) 4(-17.78,1.78) 5(-16.51,-1.78) 6(-16.51,1.78) 7(-15.24,-1.78) 8(-15.24,1.78) 9(-13.97,-1.78) 10(-13.97,1.78) 11(-12.7,-1.78) 12(-12.7,1.78) 13(-11.43,-1.78) 14(-11.43,1.78) 15(-10.16,-1.78) 16(-10.16,1.78) 17(-8.89,-1.78) 18(-8.89,1.78) 19(-7.62,-1.78) 20(-7.62,1.78) 21(-6.35,-1.78) 22(-6.35,1.78) 23(-5.08,-1.78) 24(-5.08,1.78) 25(-3.81,-1.78) 26(-3.81,1.78) 27(-2.54,-1.78) 28(-2.54,1.78) 29(-1.27,-1.78) 30(-1.27,1.78) 31(0,-1.78) 32(0,1.78) 33(1.27,-1.78) 34(1.27,1.78) 35(2.54,-1.78) 36(2.54,1.78) 37(3.81,-1.78) 38(3.81,1.78) 39(5.08,-1.78) 40(5.08,1.78) 41(6.35,-1.78) 42(6.35,1.78) 43(7.62,-1.78) 44(7.62,1.78) 45(8.89,-1.78) 46(8.89,1.78) 47(10.16,-1.78) 48(10.16,1.78) 49(11.43,-1.78) 50(11.43,1.78) 51(12.7,-1.78) 52(12.7,1.78) 53(13.97,-1.78) 54(13.97,1.78) 55(15.24,-1.78) 56(15.24,1.78) 57(16.51,-1.78) 58(16.51,1.78) 59(17.78,-1.78) 60(17.78,1.78) 61(19.05,-1.78) 62(19.05,1.78)
Top Overlay:
  drawing of 250 lines, arcs and shapes, not listed
Mechanical 16:
  drawing of 250 lines, arcs and shapes, not listed